# EAGLE library part MSP430FR5969 (library chips)
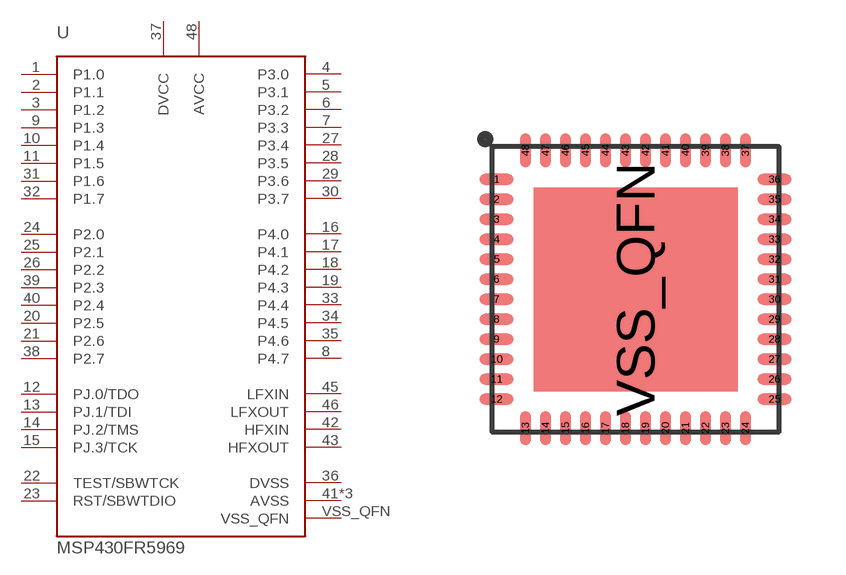
[diagram p4: symbol with the pads of S-PVQFN-N48; footprint S-PVQFN-N48]

Designator prefix U

## MSP430FR5969  [S-PVQFN-N48]
1  P1.0
2  P1.1
3  P1.2
4  P3.0
5  P3.1
6  P3.2
7  P3.3
8  P4.7
9  P1.3
10  P1.4
11  P1.5
12  PJ.0/TDO
13  PJ.1/TDI
14  PJ.2/TMS
15  PJ.3/TCK
16  P4.0
17  P4.1
18  P4.2
19  P4.3
20  P2.5
21  P2.6
22  TEST/SBWTCK
23  RST/SBWTDIO
24  P2.0
25  P2.1
26  P2.2
27  P3.4
28  P3.5
29  P3.6
30  P3.7
31  P1.6
32  P1.7
33  P4.4
34  P4.5
35  P4.6
36  DVSS
37  DVCC
38  P2.7
39  P2.3
40  P2.4
41  AVSS
42  HFXIN
43  HFXOUT
44  AVSS
45  LFXIN
46  LFXOUT
47  AVSS
48  AVCC
VSS_QFN  VSS_QFN

## Footprint S-PVQFN-N48 (pad centres in mm)
TI RGZ Package
smd 0.85 x 0.28: 1 -3.475,2.75; 2 -3.475,2.25; 3 -3.475,1.75; 4 -3.475,1.25; 5 -3.475,0.75; 6 -3.475,0.25; 7 -3.475,-0.25; 8 -3.475,-0.75; 9 -3.475,-1.25; 10 -3.475,-1.75; 11 -3.475,-2.25; 12 -3.475,-2.75; 25 3.475,-2.75; 26 3.475,-2.25; 27 3.475,-1.75; 28 3.475,-1.25; 29 3.475,-0.75; 30 3.475,-0.25; 31 3.475,0.25; 32 3.475,0.75; 33 3.475,1.25; 34 3.475,1.75; 35 3.475,2.25; 36 3.475,2.75
smd 0.28 x 0.85: 13 -2.75,-3.475; 14 -2.25,-3.475; 15 -1.75,-3.475; 16 -1.25,-3.475; 17 -0.75,-3.475; 18 -0.25,-3.475; 19 0.25,-3.475; 20 0.75,-3.475; 21 1.25,-3.475; 22 1.75,-3.475; 23 2.25,-3.475; 24 2.75,-3.475; 37 2.75,3.475; 38 2.25,3.475; 39 1.75,3.475; 40 1.25,3.475; 41 0.75,3.475; 42 0.25,3.475; 43 -0.25,3.475; 44 -0.75,3.475; 45 -1.25,3.475; 46 -1.75,3.475; 47 -2.25,3.475; 48 -2.75,3.475
smd 5.1 x 5.1: VSS_QFN 0,0